# Altium integrated library MINTCustom.IntLib: 1 symbol
Pins are listed as number, name and electrical type; pins without a type are passive.

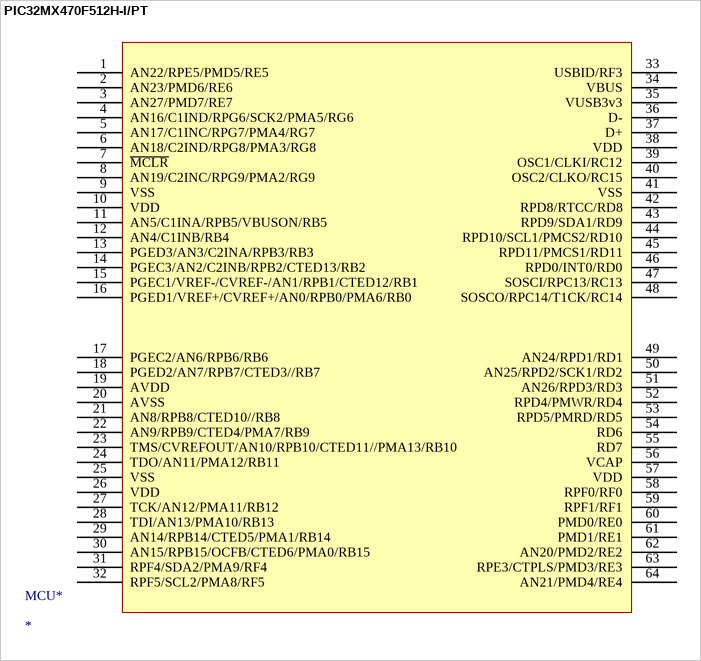
[diagram p0: symbol PIC32MX470F512H-I/PT]

## PIC32MX470F512H-I/PT
designator MCU*
footprint *QFP50P1200X1200X120-64N
pins: 1 AN22/RPE5/PMD5/RE5, 2 AN23/PMD6/RE6, 3 AN27/PMD7/RE7, 4 AN16/C1IND/RPG6/SCK2/PMA5/RG6, 5 AN17/C1INC/RPG7/PMA4/RG7, 6 AN18/C2IND/RPG8/PMA3/RG8, 7 ~{MCLR}, 8 AN19/C2INC/RPG9/PMA2/RG9, 9 VSS, 10 VDD, 11 AN5/C1INA/RPB5/VBUSON/RB5, 12 AN4/C1INB/RB4, 13 PGED3/AN3/C2INA/RPB3/RB3, 14 PGEC3/AN2/C2INB/RPB2/CTED13/RB2, 15 PGEC1/VREF-/CVREF-/AN1/RPB1/CTED12/RB1, 16 PGED1/VREF+/CVREF+/AN0/RPB0/PMA6/RB0, 17 PGEC2/AN6/RPB6/RB6, 18 PGED2/AN7/RPB7/CTED3//RB7, 19 AVDD, 20 AVSS, 21 AN8/RPB8/CTED10//RB8, 22 AN9/RPB9/CTED4/PMA7/RB9, 23 TMS/CVREFOUT/AN10/RPB10/CTED11//PMA13/RB10, 24 TDO/AN11/PMA12/RB11, 25 VSS, 26 VDD, 27 TCK/AN12/PMA11/RB12, 28 TDI/AN13/PMA10/RB13, 29 AN14/RPB14/CTED5/PMA1/RB14, 30 AN15/RPB15/OCFB/CTED6/PMA0/RB15, 31 RPF4/SDA2/PMA9/RF4, 32 RPF5/SCL2/PMA8/RF5, 33 USBID/RF3, 34 VBUS, 35 VUSB3v3, 36 D-, 37 D+, 38 VDD, 39 OSC1/CLKI/RC12, 40 OSC2/CLKO/RC15, 41 VSS, 42 RPD8/RTCC/RD8, 43 RPD9/SDA1/RD9, 44  RPD10/SCL1/PMCS2/RD10, 45 RPD11/PMCS1/RD11, 46 RPD0/INT0/RD0, 47 SOSCI/RPC13/RC13, 48 SOSCO/RPC14/T1CK/RC14, 49  AN24/RPD1/RD1, 50 AN25/RPD2/SCK1/RD2, 51 AN26/RPD3/RD3, 52 RPD4/PMWR/RD4, 53 RPD5/PMRD/RD5, 54 RD6, 55 RD7, 56 VCAP, 57 VDD, 58  RPF0/RF0, 59 RPF1/RF1, 60 PMD0/RE0, 61 PMD1/RE1, 62 AN20/PMD2/RE2, 63 RPE3/CTPLS/PMD3/RE3, 64 AN21/PMD4/RE4